# Altium footprint library Crystals.PcbLib: 4 footprints
Each footprint in its own frame and in the unit in brackets; x right, y up, seen from the top. Pads: shape width x height; smd on the part's side, far side on the other; paste and mask are expansions set on the pad; w line width, h text height; cw(c..) or ccw(c..) is an arc to the next point about the centre after c.
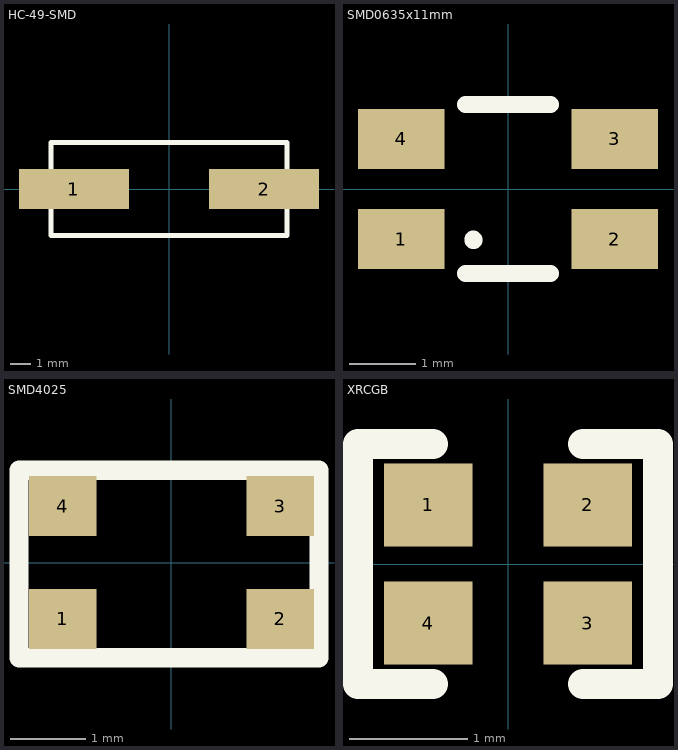
[diagram p0: the footprints below, top view; thin cyan lines are the x and y axes]

## HC-49-SMD [mm]
height 4.3
pads (2):
  rect 5.5x2 smd: 1(-4.75,0) 2(4.75,0)
Top Overlay:
  lines w0.254: -5.9,-2.325 5.9,-2.325 5.9,2.325 -5.9,2.325 -5.9,-2.325

## SMD0635x11mm [mm] "SMD CRYSTAL UNITS 6*3.5*1.1mm"
height 1.1
pads (4):
  rect 1.3x0.9 smd: 1(-1.6,-0.75) 2(1.6,-0.75) 3(1.6,0.75) 4(-1.6,0.75)
Top Overlay:
  circle w0.254: c-0.518,-0.762 r0.01
  lines w0.254: -0.635,-1.27 0.635,-1.27 ; -0.635,1.27 0.635,1.27

## SMD4025 [mm] "4 pads, 4.0x2.5x0.8m"
height 0.8
pads (4):
  rect 0.9x0.8 smd: 1(-1.45,-0.75) 2(1.45,-0.75) 3(1.45,0.75) 4(-1.45,0.75)
Top Overlay:
  lines w0.254: -2.032,-1.27 1.968,-1.27 1.968,1.23 -2.032,1.23 -2.032,-1.27

## XRCGB [mm]
height 0.7
pads (4):
  rect 0.75x0.7 smd: 1(-0.675,0.5) 2(0.675,0.5) 3(0.675,-0.5) 4(-0.675,-0.5)
Top Overlay:
  lines w0.254: -0.635,-1.016 -1.27,-1.016 -1.27,1.016 -0.635,1.016 ; 0.635,-1.016 1.27,-1.016 1.27,1.016 0.635,1.016